# Altium footprint library AD9833_drive.PcbLib: 19 footprints (part 1 of 2)
Each footprint in its own frame and in the unit in brackets; x right, y up, seen from the top. Pads: shape width x height; smd on the part's side, far side on the other; paste and mask are expansions set on the pad; w line width, h text height; cw(c..) or ccw(c..) is an arc to the next point about the centre after c.
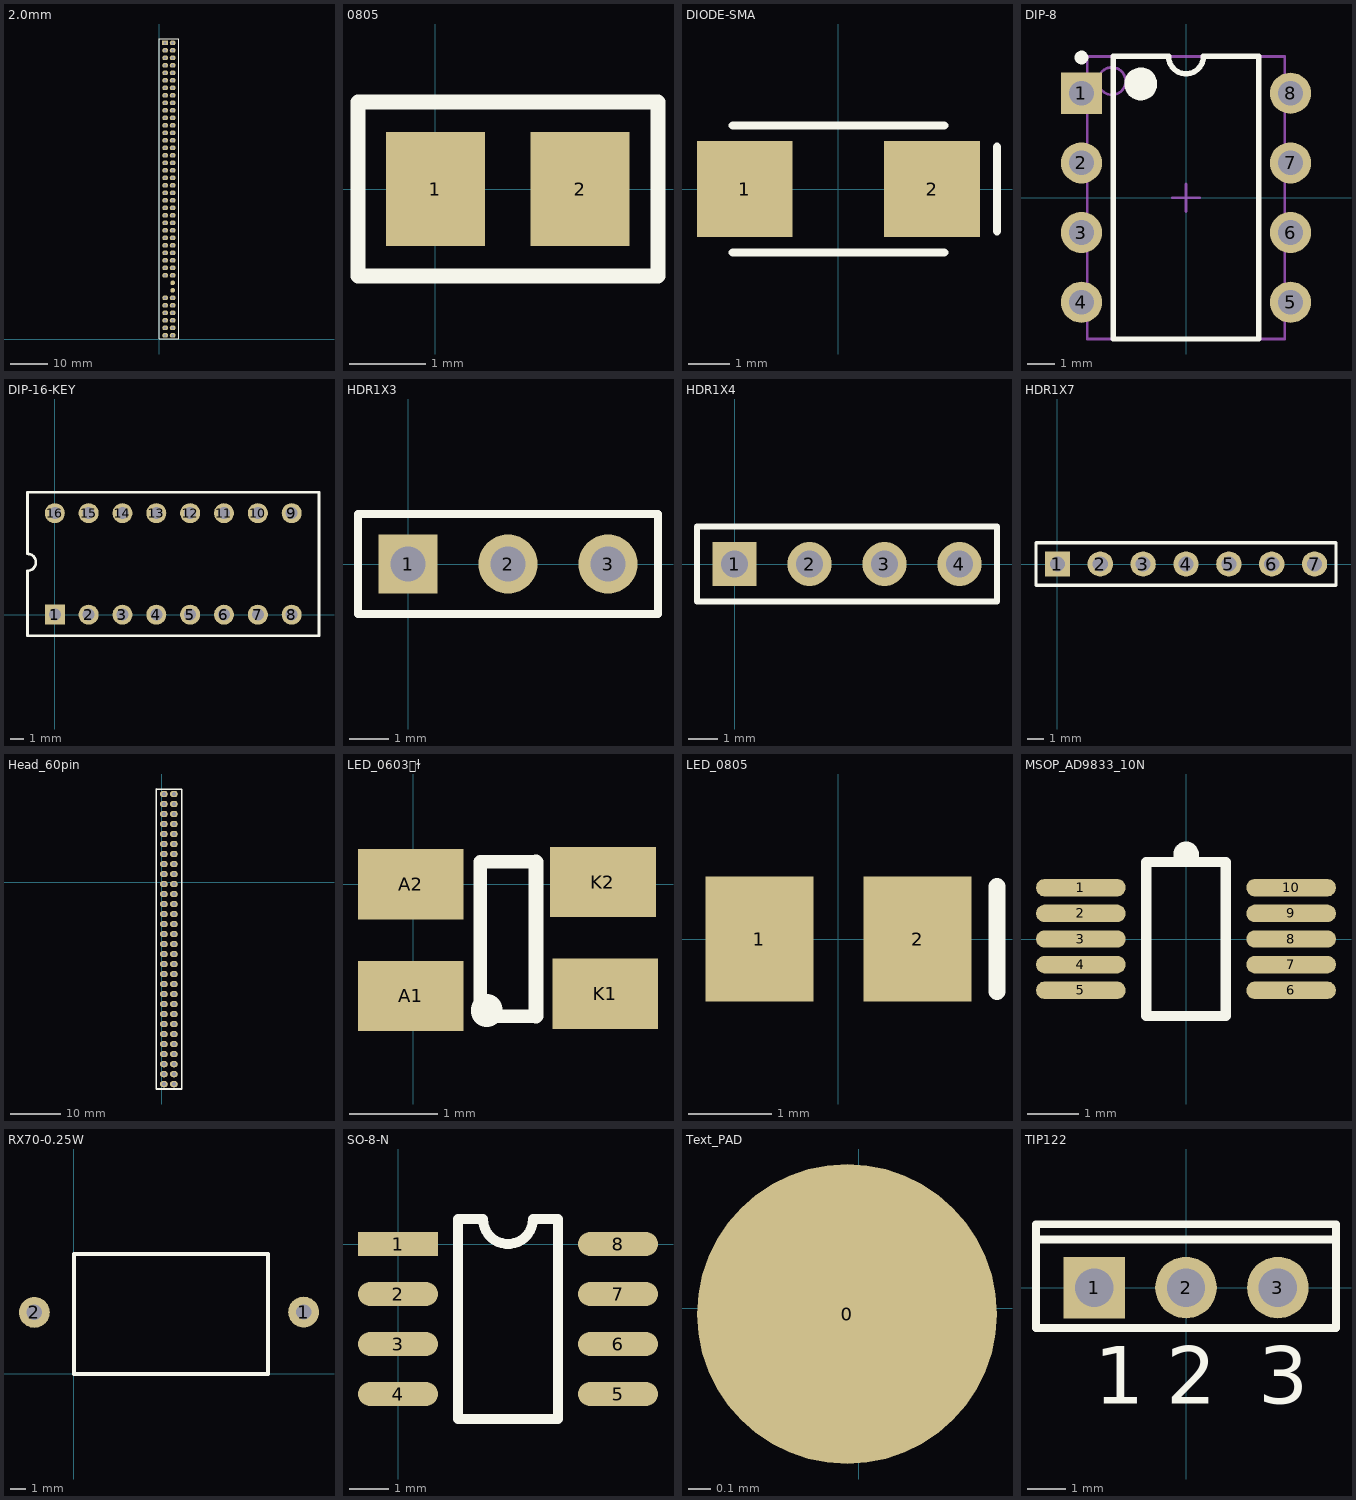
[diagram p0: the footprints below, top view; thin cyan lines are the x and y axes]

## 2.0mm [mm]
pads (80):
  rect 1.57x1.27 hole 0.8: 1(1.524,79.016)
  oval 1.57x1.27 hole 0.8: 2(3.524,79.016) 3(1.524,77.016) 4(3.524,77.016) 5(1.524,75.016) 6(3.524,75.016) 7(1.524,73.016) 8(3.524,73.016) 9(1.524,71.016) 10(3.524,71.016) 11(1.524,69.016) 12(3.524,69.016) 13(1.524,67.016) 14(3.524,67.016) 15(1.524,65.016) 16(3.524,65.016) 17(1.524,63.016) 18(3.524,63.016) 19(1.524,61.016) 20(3.524,61.016) 21(1.524,59.016) 22(3.524,59.016) 23(1.524,57.016) 24(3.524,57.016) 25(1.524,55.016) 26(3.524,55.016) 27(1.524,53.016) 28(3.524,53.016) 29(1.524,51.016) 30(3.524,51.016) 31(1.524,49.016) 32(3.524,49.016) 33(1.524,47.016) 34(3.524,47.016) 35(1.524,45.016) 36(3.524,45.016) 37(1.524,43.016) 38(3.524,43.016) 39(1.524,41.016) 40(3.524,41.016) 41(1.524,39.016) 42(3.524,39.016) 43(1.524,37.016) 44(3.524,37.016) 45(1.524,35.016) 46(3.524,35.016) 47(1.524,33.016) 48(3.524,33.016) 49(1.524,31.016) 50(3.524,31.016) 51(1.524,29.016) 52(3.524,29.016) 53(1.524,27.016) 54(3.524,27.016) 55(1.524,25.016) 56(3.524,25.016) 57(1.524,23.016) 58(3.524,23.016) 59(1.524,21.016) 60(3.524,21.016) 61(1.524,19.016) 62(3.524,19.016) 63(1.524,17.016) 64(3.524,17.016) 69(1.524,11.016) 70(3.524,11.016) 71(1.524,9.016) 72(3.524,9.016) 73(1.524,7.016) 74(3.524,7.016) 75(1.524,5.016) 76(3.524,5.016) 77(1.524,3.016) 78(3.524,3.016) 79(1.524,1.016) 80(3.524,1.016)
  round 0 smd: 65(1.524,15.016) 67(1.524,13.016)
  round 1.27 smd: 66(3.524,15.016) 68(3.524,13.016)
Top Overlay:
  lines w0.2: 0,0.032 0,80.032 ; 5.08,0.032 5.08,80.032
  lines w0.254: 0,0.032 5.08,0.032 ; 0,80.032 5.08,80.032
  lines w0.305: 0,0.032 0,80.032 5.08,80.032 5.08,0.032 0,0.032

## 0805 [mm]
pads (2):
  rect 1.3x1.5 smd: 1(0,0) 2(1.9,0)
Top Overlay:
  lines w0.2: -1.016,-1.143 2.921,-1.143 2.921,-1.016 2.921,1.143 -1.016,1.143 -1.016,-1.143

## DIODE-SMA [mm] "贴片二极管"
height 2.54
pads (2):
  rect 2.3x2.3 smd: 1(-2.25,0) 2(2.25,0)
Top Overlay:
  lines w0.2: -2.54,-1.524 2.54,-1.524 ; -2.54,1.524 2.54,1.524 ; 3.81,-1.016 3.81,1.016
3D body: height 3, standoff 0, extent -2.921,-1.397 2.921,1.397

## DIP-8 [mm] "DIP; 8 Leads; Row Spacing 7.62 mm; Pitch 2.54 mm"
height 5.08
pads (8):
  rect 1.5x1.5 hole 0.9: 1(-3.81,3.81)
  round 1.5 hole 0.9: 2(-3.81,1.27) 3(-3.81,-1.27) 4(-3.81,-3.81) 5(3.81,-3.81) 6(3.81,-1.27) 7(3.81,1.27) 8(3.81,3.81)
Top Overlay:
  circle w0.6: c-1.65,4.15 r0.3
  circle w0.25: c-3.81,5.11 r0.125
  lines w0.2: -2.65,-5.15 2.65,-5.15 2.65,5.15 0.635,5.15 cw(c0,5.15) -0.635,5.15 -2.65,5.15 -2.65,-5.15
Mechanical 13:
  circle w0.1: c-2.7,4.25 r0.5
  lines w0.1: -3.6,-5.15 3.6,-5.15 3.6,5.15 -3.6,5.15 -3.6,-5.15
Mechanical 15:
  lines w0.1: -0.5,0 0.5,0 ; 0,-0.5 0,0.5
3D body: height 5.08, standoff 0, extent -3.6,-5.15 3.6,5.15

## DIP-16-KEY [mm] "DIP; 16 Leads; Row Spacing 7.62 mm; Pitch 2.54 mm"
pads (16):
  rect 1.5x1.5 hole 0.9: 1(0,0)
  round 1.5 hole 0.9: 2(2.54,0) 3(5.08,0) 4(7.62,0) 5(10.16,0) 6(12.7,0) 7(15.24,0) 8(17.78,0) 9(17.78,7.62) 10(15.24,7.62) 11(12.7,7.62) 12(10.16,7.62) 13(7.62,7.62) 14(5.08,7.62) 15(2.54,7.62) 16(0,7.62)
Top Overlay:
  lines w0.2: -2.05,4.57 cw(c-2.05,3.935) -2.05,3.3 -2.05,-1.59 19.83,-1.59 19.83,9.2 -2.05,9.2 -2.05,4.6

## HDR1X3 [mm] "Connector; Header; 3 Position"
pads (3):
  rect 1.5x1.5 hole 0.9: 1(0,0)
  round 1.5 hole 0.9: 2(2.54,0) 3(5.08,0)
Top Overlay:
  lines w0.2: -1.27,-1.27 -1.27,1.27 6.35,1.27 6.35,-1.27 -1.27,-1.27

## HDR1X4 [mm] "Connector; Header; 4 Position"
pads (4):
  rect 1.5x1.5 hole 0.9: 1(0,0)
  round 1.5 hole 0.9: 2(2.54,0) 3(5.08,0) 4(7.62,0)
Top Overlay:
  lines w0.2: -1.27,-1.27 8.89,-1.27 8.89,1.27 -1.27,1.27 -1.27,-1.27

## HDR1X7 [mm] "Connector; Header; 7 Position"
pads (7):
  rect 1.5x1.5 hole 0.9: 1(0,0)
  round 1.5 hole 0.9: 2(2.54,0) 3(5.08,0) 4(7.62,0) 5(10.16,0) 6(12.7,0) 7(15.24,0)
Top Overlay:
  lines w0.2: -1.27,-1.27 16.51,-1.27 16.51,1.27 -1.27,1.27 -1.27,-1.27

## Head_60pin [mm]
height 1
pads (60):
  oval 1.57x1.27 hole 0.8: 21(0.406,17.69) 22(2.406,17.69) 23(0.406,15.69) 24(2.406,15.69) 25(0.406,13.69) 26(2.406,13.69) 27(0.406,11.69) 28(2.406,11.69) 29(0.406,9.69) 30(2.406,9.69) 31(0.406,7.69) 32(2.406,7.69) 33(0.406,5.69) 34(2.406,5.69) 35(0.406,3.69) 36(2.406,3.69) 37(0.406,1.69) 38(2.406,1.69) 39(0.406,-0.31) 40(2.406,-0.31) 41(0.406,-2.31) 42(2.406,-2.31) 43(0.406,-4.31) 44(2.406,-4.31) 45(0.406,-6.31) 46(2.406,-6.31) 47(0.406,-8.31) 48(2.406,-8.31) 49(0.406,-10.31) 50(2.406,-10.31) 51(0.406,-12.31) 52(2.406,-12.31) 53(0.406,-14.31) 54(2.406,-14.31) 55(0.406,-16.31) 56(2.406,-16.31) 57(0.406,-18.31) 58(2.406,-18.31) 59(0.406,-20.31) 60(2.406,-20.31) 61(0.406,-22.31) 62(2.406,-22.31) 63(0.406,-24.31) 64(2.406,-24.31) 65(0.406,-26.31) 66(2.406,-26.31) 67(0.406,-28.31) 68(2.406,-28.31) 69(0.406,-30.31) 70(2.406,-30.31) 71(0.406,-32.31) 72(2.406,-32.31) 73(0.406,-34.31) 74(2.406,-34.31) 75(0.406,-36.31) 76(2.406,-36.31) 77(0.406,-38.31) 78(2.406,-38.31) 79(0.406,-40.31) 80(2.406,-40.31)
Top Overlay:
  lines w0.2: -1.118,-41.294 -1.118,18.669 ; 3.962,-41.294 3.962,18.669
  lines w0.254: -1.118,-41.294 3.962,-41.294 ; -1.118,18.669 3.962,18.669
  lines w0.305: -1.118,18.694 -1.118,-41.294 3.962,-41.294 3.962,18.669

## LED_0603˫ɫ [mm] "贴片双色LED"
pads (4):
  rect 1.2x0.8 smd: A1(-0.025,-1.27) A2(-0.025,0) K1(2.184,-1.245) K2(2.159,0.025)
Top Overlay:
  lines w0.154: 0.762,-1.473 0.762,0.254 1.397,0.254 ; 0.838,-1.499 1.372,-1.499
  lines w0.17: 1.397,-1.499 1.397,0.254
  lines w0.354: 0.838,-1.448 0.838,-1.422

## LED_0805 [mm] "贴片二极管"
height 1.1
pads (2):
  rect 1.3x1.5 smd: 1(-0.95,0) 2(0.95,0)
Top Overlay:
  lines w0.2: 1.905,-0.635 1.905,0.635

## MSOP_AD9833_10N [mm] "TSSOP, 10-Leads, Body 3.0x3.0mm (max), Pitch 0.50mm, IPC Medium Density"
height 1.1
pads (10):
  oval 1.75x0.34 smd: 1(-2.05,1) 2(-2.05,0.5) 3(-2.05,0) 4(-2.05,-0.5) 5(-2.05,-1) 6(2.05,-1) 7(2.05,-0.5) 8(2.05,0) 9(2.05,0.5) 10(2.05,1)
Top Overlay:
  circle w0.25: c0.002,1.651 r0.125
  lines w0.2: -0.775,-1.5 0.775,-1.5 0.775,1.5 -0.775,1.5 -0.775,-1.5

## RX70-0.25W [mm]
pads (2):
  round 2 hole 1: 1(14.91,4.013) 2(-2.565,3.988)
Top Overlay:
  lines w0.254: 0,0 0,7.772 12.598,7.772 12.598,0 0,0

## SO-8-N [mil]
pads (8):
  rect 80x24 smd: 1(0,0)
  oval 80x24 smd: 2(0,-50) 3(0,-100) 4(0,-150) 5(220,-150) 6(220,-100) 7(220,-50) 8(220,0)
Top Overlay:
  lines w10: 60,-175 160,-175 160,25 135,25 cw(c110,25) 85,25 60,25 60,-175

## Text_PAD [mil]
pads (1):
  round 52.13 smd: 0(-2,-1)

## TIP122 [mm]
pads (3):
  rect 1.6x1.6 hole 1: 1(-2.39,0)
  round 1.6 hole 1: 2(0,0) 3(2.39,0)
Top Overlay:
  lines w0.2: -3.9,1.25 3.9,1.25 ; -3.9,-1.05 -3.9,1.65 3.9,1.65 3.9,-1.05 3.7,-1.05 -3.9,-1.05
  text "1" at -2.39,-3.025 h1.5
  text "3" at 1.882,-3.025 h1.5
  text "2" at -0.508,-3.025 h1.5